# Altium integrated library Ref_altium lib_R0.IntLib: 381 symbols (part 4 of 4)
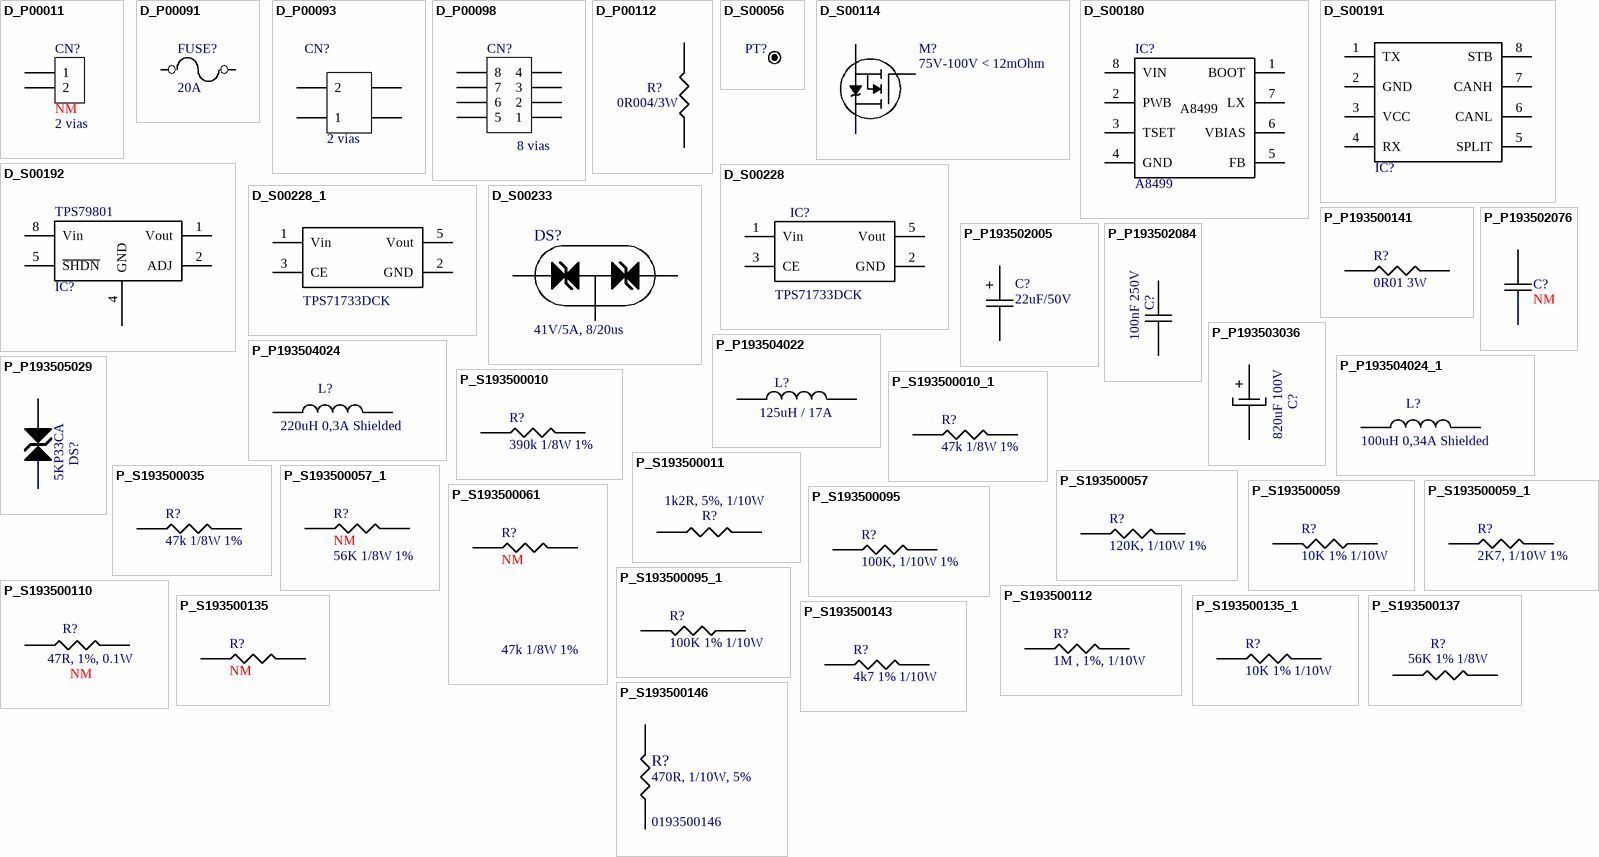
[diagram p14: symbols D_P00011 to P_S193500146]

## P_S193500011
designator R?, comment value 1k2R, 5%, 1/10W  (hidden comment: P_S193500110)
1k2R, 5%, 1/10W; EECON CODE: 0193500011; COMPONENT: RES.,1k2R, 5%, 1/10W; Text Field1: 2322 702 81122L@ REEL 13" 20000PÇS; Text Field2: PHYCOMP; Text Field3: 2322 702 70122L@ REEL 10" 10000PÇS; Text Field5: 2322 702 60122L@ REEL 7" 5000PÇS; Text Field4: PHYCOMP; Text Field6: PHYCOMP
footprint 0603_R_V0
footprint 0603_O_V0
pins: 1, 2

## P_S193500035
designator R?  value 47k 1/8W 1%  (hidden comment: *)
47k 1/8W 1%; DES: R540; Descrição: Resistor filme 0805 47k 1/8W 1%; Fabricante: Yageo / Phycomp; Tipo: SMT; Case: 0805
footprint 0805_R_V0
footprint 0805_O_V0
footprint 0805_R_V3
pins: 1, 2

## P_S193500057
designator R?  value 120K, 1/10W 1%  (hidden comment: P_S193500057)
120K, 1/10W 1%; DES: R211; Fabricante: Yageo / Phycomp; Tipo: SMT; Descrição: Resistor Filme 0603 size 120K 1%; Case: 0603
footprint 0603_R_V0
footprint 0603_O_V0
pins: 1, 2

## P_S193500057_1
designator R?, comment value 56K 1/8W 1%  Obs: NM  (hidden comment: P_S193500010)
56K 1/8W 1%; DES: R204; Fabricante: Yageo / Phycomp; Tipo: SMT; Descrição: Resistor filme 0805 47k 1/8W 1%; Case: 0805
footprint 0603_R_V0
footprint 0603_O_V0
footprint 0805_R_V0
footprint 0805_R_V3
pins: 1, 2

## P_S193500059
designator R?  value 10K 1% 1/10W  (hidden comment: *)
10K 1% 1/10W; DES: R522; Descrição: FILM RESISTOR, 0603 SIZE, 10K 1% 1/10W; Fabricante: Yageo / Phycomp; Tipo: SMT; Case: 0603
footprint 0603_R_V0
footprint 0603_O_V0
pins: 1, 2

## P_S193500059_1
designator R?, comment value 2K7, 1/10W 1%  (hidden comment: P_S193500059)
2K7, 1/10W 1%; DES: R521; Descrição: Resistor Filme 0603 size 2K7 1%; Fabricante: Yageo / Phycomp; Tipo: SMT; Case: 0603
footprint 0603_R_V0
footprint 0603_O_V0
pins: 1, 2

## P_S193500061
designator R?  value 47k 1/8W 1%  Obs: NM  (hidden comment: *)
47k 1/8W 1%; DES: R503; Descrição: Resistor filme 0805 47k 1/8W 1%; Fabricante: Yageo / Phycomp; Tipo: SMT; Case: 0805
footprint 0603_R_V0
footprint 0603_O_V0
footprint 0805_R_V0
footprint 0805_R_V3
pins: 1, 2

## P_S193500095
designator R?  value 100K, 1/10W 1%  (hidden comment: *)
100K, 1/10W 1%; DES: R519; Descrição: Resistor Filme 0603 size 100K 1%; Fabricante: Yageo / Phycomp; Tipo: SMT; Case: 0603
footprint 0603_R_V0
footprint 0603_O_V0
pins: 1, 2

## P_S193500095_1
designator R?  value 100K 1% 1/10W
100K 1% 1/10W; DES: R524; Descrição: FILM RESISTOR, 0603 SIZE, 100K 1% 1/10W; Fabricante: Yageo / Phycomp; Tipo: SMT; Case: 0603
footprint 0603_R_V0
footprint 0603_O_V0
pins: 1, 2

## P_S193500110
designator R?, comment value 47R, 1%, 0.1W  Obs: NM  (hidden comment: P_S193500065)
47R, 1%, 0.1W; EECON CODE: 193500110; Text Field1: FILM RES., 0603 SIZE, 47R, 1%,0.1W; Text Field2: 2322 702 60479 @PKG T&R 7" 5000PÇS; Text Field3: PHYCOMP; Text Field4: 2322 702 70479 @PKG T&R 13" 10000PÇS; Text Field5: PHYCOMP
footprint 0603_R_V0
footprint 0603_O_V0
pins: 1, 2

## P_S193500112
designator R?  value 1M , 1%, 1/10W  (hidden comment: *)
1M , 1%, 1/10W; EECON CODE: 0193500112; COMPONENT: RES, 0603 SIZE, 1M, 1%, 1/10W; Text Field5: 2322 704 81005L@ REEL 20000PÇS; Text Field2: PHYCOMP; Text Field1: 2322 704 61005L@ REEL 5000PÇS; Text Field3: 2322 704 71005L@ REEL 10000PÇS; Text Field6: PHYCOMP; Text Field4: PHYCOMP
footprint 0603_R_V0
footprint 0603_O_V0
pins: 1, 2

## P_S193500135
designator R?  value NM  (hidden comment: *)
NM; DES: R302; Descrição: Resistor 1206
footprint 0603_R_V0
footprint 0603_O_V0
footprint 2010_R_V0
footprint 1206_R_V0
pins: 1, 2

## P_S193500135_1
designator R?, comment value 10K 1% 1/10W  (hidden comment: P_S193500135)
10K 1% 1/10W; DES: R553; Fabricante: Yageo / Phycomp; Tipo: SMT; Descrição: FILM RESISTOR, 0603 SIZE, 10K 1% 1/10W; Case: 0603
footprint 0603_R_V0
footprint 0603_O_V0
pins: 1, 2

## P_S193500137
designator R?  value 56K 1% 1/8W  (hidden comment: *)
56K 1% 1/8W; DES: R539; Descrição: FILM RESISTOR, 0805 SIZE, 56K 1% 1/8W; Fabricante: Yageo / Phycomp; Tipo: SMT; Case: 0805
footprint 0805_R_V0
footprint 0805_O_V0
footprint 0805_R_V3
pins: 1, 2

## P_S193500143
designator R?  value 4k7 1% 1/10W  (hidden comment: *)
4k7 1% 1/10W; DES: R547; Descrição: FILM RESISTOR, 0603 SIZE, 4k7 1% 1/10W; Fabricante: Yageo / Phycomp; Tipo: SMT; Case: 0603
footprint 0603_O_V0
footprint 0603_R_V0
pins: 1, 2

## P_S193500146
designator R?  value 470R, 1/10W, 5%  EECON CODE: 0193500146  (hidden comment: P_S193500146)
470R, 1/10W, 5%; COMPONENT: RES., 0603 SIZE, 2K2, 1/10W, 5%; Text Field2: PHYCOMP; Text Field1: 2322 702 60222L @ REEL 5000PÇS; Text Field5: 2322 702 81222L @ REEL 20000PÇS; Text Field3: 2322 702 70222L @ REEL 10000PÇS; Text Field4: PHYCOMP; Text Field6: PHYCOMP
footprint 0603_R_V0
footprint 0603_O_V0
pins: 1, 2

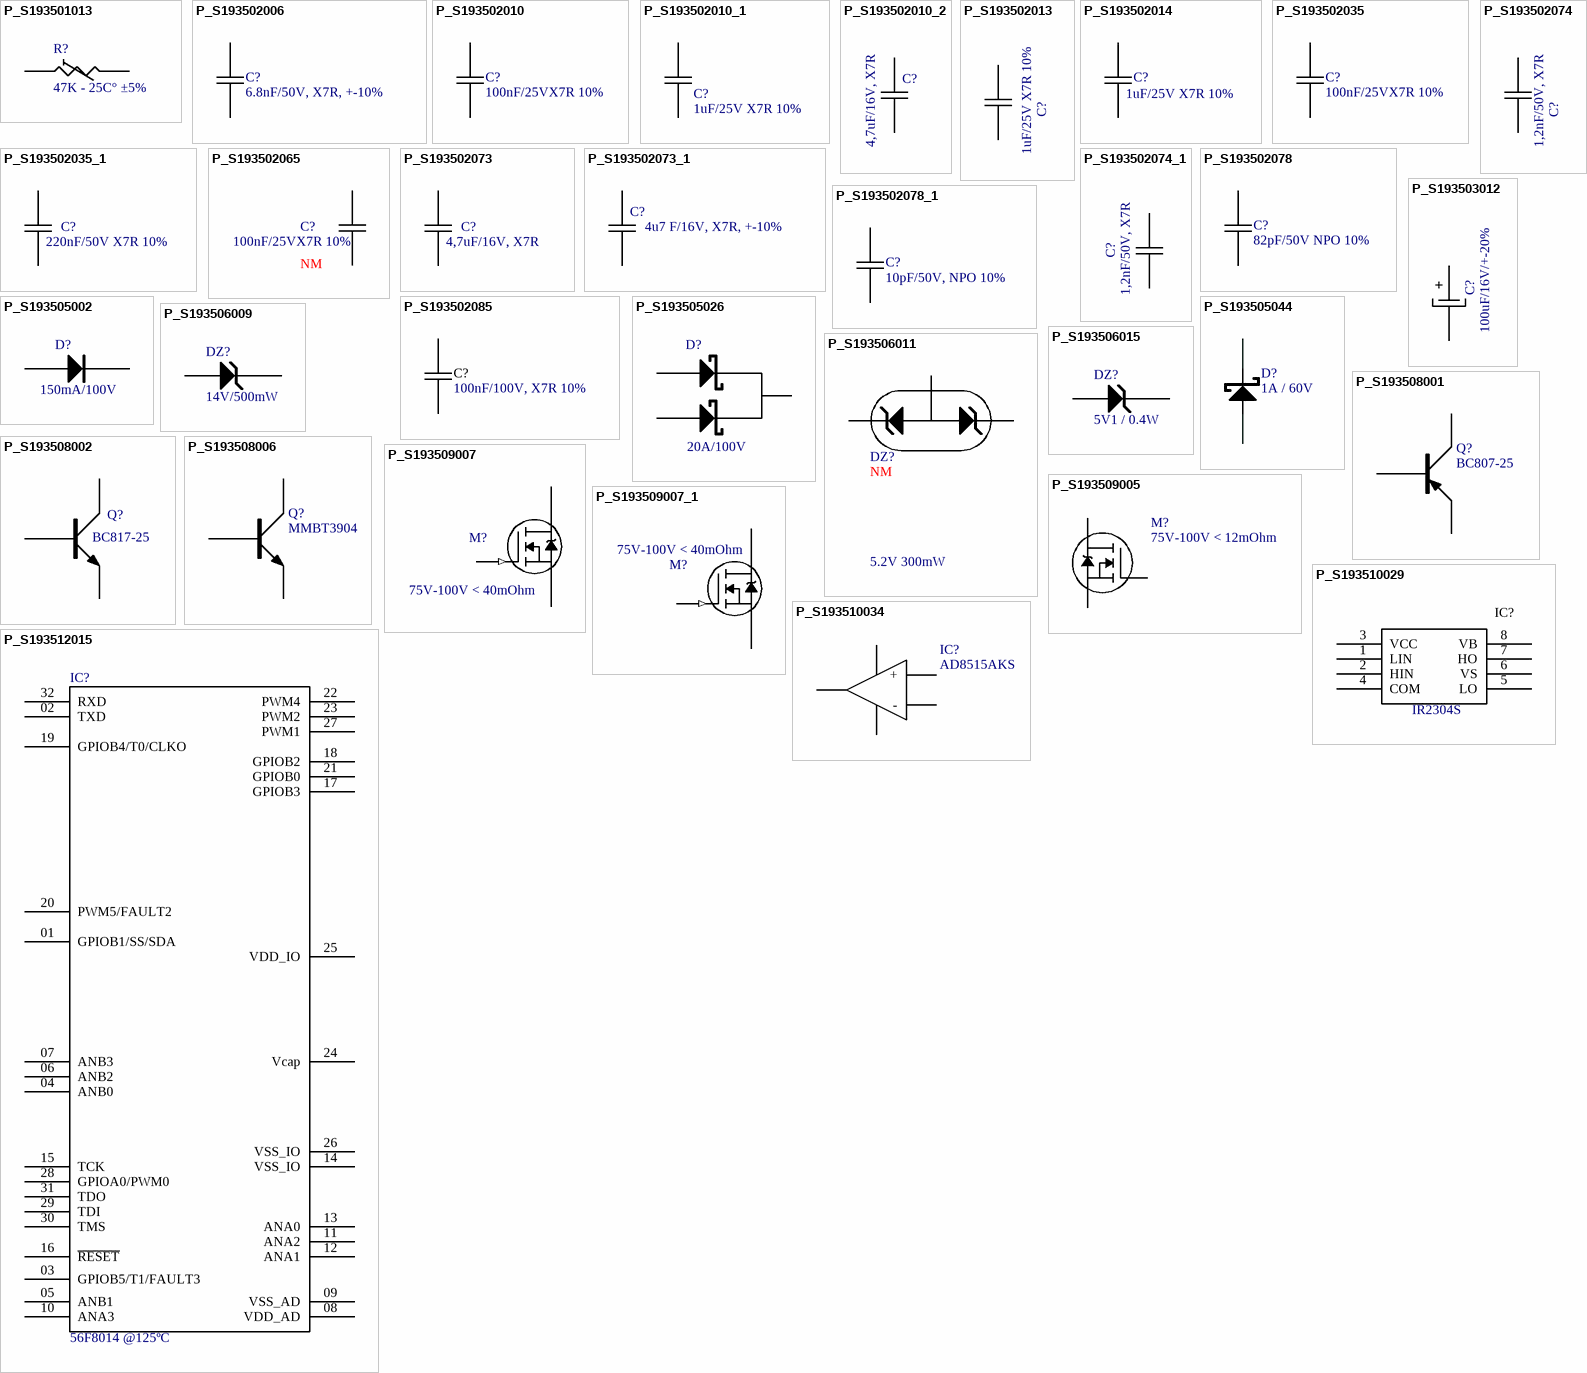
[diagram p11: symbols P_S193501013 to P_S193512015]

## P_S193501013
designator R?  value 47K - 25C° ±5%  (hidden comment: *)
47K - 25C° ±5%; DES: R602; Descrição: NTC Thermistors 47K - 25C° ±5%; Tipo: SMT
footprint 0603_R_V0
footprint 0603_O_V0
pins: 1, 2

## P_S193502006
designator C?  value 6.8nF/50V, X7R, +-10%  (hidden comment: *)
6.8nF/50V, X7R, +-10%; Text Field1: CERAMIC CAP., 0603 SIZE, 6.8nF/50V, X7R, +-10%; Text Field2: 2238 586 55634 @ Paper 8mm Tape Reel 180mm (7") 4000PÇS; Text Field3: PHYCOMP; Text Field4: 2238 586 15634 @ Paper 8mm Tape Reel 330mm (13") 15000PÇS; EECON CODE: 193502006; Text Field5: PHYCOMP
footprint 0603_R_V0
pins: 1, 2

## P_S193502010
designator C?  value 100nF/25VX7R 10%  (hidden comment: *)
100nF/25VX7R 10%; DES: C508; Descrição: Capac ceramic 0603 size 100nF/25VX7R 10%; Fabricante: Yageo / Phycomp; Tipo: SMT; Case: 0603
footprint 0603_R_V0
footprint 0603_O_V0
pins: 1, 2

## P_S193502010_1
designator C?, comment value 1uF/25V X7R 10%  (hidden comment: P_S193502010)
1uF/25V X7R 10%; Part number: 2222 910 15663; DES: C211; Descrição: Capacitor MLCC 1uF 10% 0805 25V X7R; Fabricante: Yageo / Phycomp; Tipo: SMT; Case: 0805
footprint 0603_R_V0
footprint 0603_O_V0
footprint 0805_R_V0
footprint 0805_R_V3
pins: 1, 2

## P_S193502010_2
designator C?, comment value 4,7uF/16V, X7R  (hidden comment: P_S193502010)
4,7uF/16V, X7R; DES: C210; Descrição: CERAMIC CAPAC, 1206 SIZE, 4,7uF/16V, X7R; Fabricante: Yageo / Phycomp; Tipo: SMT; Case: 1206
footprint 1206_R_V0
footprint 0603_O_V0
pins: 1, 2

## P_S193502013
designator C?  value 1uF/25V X7R 10%  (hidden comment: P_S193502013)
1uF/25V X7R 10%; Part number: 2222 910 15663; DES: C203; Descrição: Capacitor MLCC 1uF 10% 0805 25V X7R; Fabricante: Yageo / Phycomp; Tipo: SMT; Case: 0805
footprint 0805_R_V0
footprint 0805_O_V0
footprint 1206_R_V0
footprint 0805_R_V3
pins: 1, 2

## P_S193502014
designator C?  value 1uF/25V X7R 10%  (hidden comment: P_S193502014)
1uF/25V X7R 10%; Part number: 2222 910 15663; DES: C501; Descrição: Capacitor MLCC 1uF 10% 0805 25V X7R; Fabricante: Yageo / Phycomp; Tipo: SMT; Case: 0805
footprint 1206_R_V0
footprint 0603_O_V0
footprint 0805_R_V0
footprint 0805_R_V3
pins: 1, 2

## P_S193502035
designator C?  value 100nF/25VX7R 10%  (hidden comment: P_S193502035)
100nF/25VX7R 10%; DES: C517; Descrição: Capac ceramic 0603 size 100nF/25VX7R 10%; Fabricante: Yageo / Phycomp; Tipo: SMT; Case: 0603
footprint 0805_R_V0
footprint 0805_O_V0
footprint 0603_R_V0
pins: 1, 2

## P_S193502035_1
designator C?, comment value 220nF/50V X7R 10%  (hidden comment: P_S193502010)
220nF/50V X7R 10%; Text Field1: CERAMIC CAP., 0805 SIZE, 100nF/50V, X7R, +-10%; Text Field2: 2238 580 15649 @ Paper Tape& 180mm(7") Reel 4000PÇS % 2238 580 55649 @ Paper Tape& 330mm(13") Reel 15000PÇS; Text Field3: PHYCOMP % PHYCOMP; Text Field4: MCH215CN104KP @ Pulastic Tape 180mm (7in.) 2000PÇS % B37941-K5104-K60 @ Cardboard Tape 180mm Reel 4000PÇS; Text Field5: ROHM % EPCOS; Text Field6: B37941-K5104-K70 @ Cardboard Tape 330mm Reel 16000PÇS; Text Field7: EPCOS; DES: C201; Descrição: Capacitor cer mult 0805 100nF/50V X7R10%; Fabricante: Yageo / Phycomp; Tipo: SMT; Case: 0805
footprint 0805_R_V0
footprint 0805_O_V0
footprint 0805_R_V3
pins: 1, 2

## P_S193502065
designator C?  value 100nF/25VX7R 10%  Obs: NM  (hidden comment: *)
100nF/25VX7R 10%; DES: C502; Descrição: Capac ceramic 0603 size 100nF/25VX7R 10%; Fabricante: Yageo / Phycomp; Tipo: SMT; Case: 0603
footprint 0603_O_V0
footprint 0603_R_V0
pins: 1, 2

## P_S193502073
designator C?  value 4,7uF/16V, X7R  (hidden comment: *)
4,7uF/16V, X7R; DES: C505; Descrição: CERAMIC CAPAC, 1206 SIZE, 4,7uF/16V, X7R; Fabricante: Yageo / Phycomp; Tipo: SMT; Case: 1206
footprint 1206_R_V0
footprint 1206_O_V0
footprint 1206_O_V1
pins: 1, 2

## P_S193502073_1
designator C?, comment value 4u7 F/16V, X7R, +-10%  (hidden comment: P_S193502013)
4u7 F/16V, X7R, +-10%; EECON CODE: 193502073; Text Field1: CERAMIC CAP., 1206 SIZE,4u7F/16V, X7R, +-15%; Text Field2: EMK316 BJ 475??@ Tape & Reel 4000PÇS; Text Field3: Taiyo Yuden
footprint 1206_R_V0
footprint 1206_O_V0
pins: 1, 2

## P_S193502074
designator C?  value 1,2nF/50V, X7R  (hidden comment: *)
1,2nF/50V, X7R; Text Field1: CERAMIC CAP., 0805 SIZE, 1nF/50V, X7R, +-10%; Text Field2: 2238 861 15102 @ Paper Tape& 180mm(7") Reel 4000PÇS; Text Field3: PHYCOMP; Text Field4: 2238 861 75102 @Paper Tape& 330mm(13") Reel 15000PÇS; DES: C519; Descrição: CERAMIC CAPAC, 0603 SIZE, 1,2nF/50V, X7R; Fabricante: Yageo / Phycomp; Tipo: SMT; Text Field5: PHYCOMP; Case: 0805
footprint 0603_R_V0
footprint 0603_O_V0
pins: 1, 2

## P_S193502074_1
designator C?  value 1,2nF/50V, X7R
1,2nF/50V, X7R; Text Field1: CERAMIC CAP., 0805 SIZE, 1nF/50V, X7R, +-10%; Text Field2: 2238 861 15102 @ Paper Tape& 180mm(7") Reel 4000PÇS; Text Field3: PHYCOMP; Text Field4: 2238 861 75102 @Paper Tape& 330mm(13") Reel 15000PÇS; DES: C510; Descrição: CERAMIC CAPAC, 0603 SIZE, 1,2nF/50V, X7R; Fabricante: Yageo / Phycomp; Tipo: SMT; Text Field5: PHYCOMP; Case: 0805
footprint 0603_R_V0
footprint 0603_O_V0
pins: 1, 2

## P_S193502078
designator C?  value 82pF/50V NPO 10%  (hidden comment: *)
82pF/50V NPO 10%; DES: C507; Descrição: CERAMIC CAPAC, 0603 82pF/50V NPO 10%; Fabricante: Yageo / Phycomp; Tipo: SMT; Case: 0603
footprint 0603_R_V0
footprint 0603_O_V0
pins: 1, 2

## P_S193502078_1
designator C?, comment value 10pF/50V, NPO 10%  (hidden comment: P_S193500065)
10pF/50V, NPO 10%; EECON CODE: new; Text Field1: CERAMIC CAP., 0805 SIZE, 1nF/50V, X7R, +-10%; Text Field2: 2238 861 15102 @ Paper Tape& 180mm(7") Reel 4000PÇS; Text Field3: PHYCOMP; Text Field4: 2238 861 75102 @Paper Tape& 330mm(13") Reel 15000PÇS; Text Field5: PHYCOMP
footprint 0603_R_V0
footprint 0603_O_V0
pins: 1, 2

## P_S193502085
designator C?  value 100nF/100V, X7R 10%  (hidden comment: P_S193502085)
100nF/100V, X7R 10%; DES: C401; Descrição: CERAMIC CAPAC, 1206, 100nF/100V, X7R 10%; Fabricante: Yageo / Phycomp
footprint 1206_R_V0
footprint 1206_O_V0
footprint 1206_O_V1
pins: 1, 2

## P_S193503012
designator C?, comment value 100uF/16V/+-20%  (hidden comment: P_S193502010)
100uF/16V/+-20%; Text Field1: ELET. CAP., 100uF/16V 7000h, 105C, +-20%; Text Field2: UCW1C101MCL1GS @  1000PÇS; Text Field3: NICHICON; EECON CODE: new
footprint CAP-ELETRO-C_R_V0
footprint CAP-ELETRO-D_R_V0
pins: 1, 2
text: +

## P_S193505002
designator D?  value 150mA/100V  (hidden comment: P_S193505002)
150mA/100V; Part number: LL4148; DES: D502; Descrição: Diodo 150mA/100V minimelf SOD - 80; Obs: Não montado com driver da ST; Tipo: SMT
footprint MINIMELF_R_V0
footprint MINIMELF_O_V0
pins: 1, 2

## P_S193505026
designator D?  value 20A/100V  (hidden comment: P_S193505026)
20A/100V; Part number: STPS20H100CT; DES: D301; Descrição: Schottky Diode 20A/100V; Fabricante: ST; Tipo: SMT
footprint D2PAK_R_V0
footprint D2PAK_R_V0
footprint DPAK_O_V0
pins: 1, 2, 3

## P_S193505044
designator D?  value 1A / 60V  (hidden comment: *)
1A / 60V; EECON CODE: 0193505044; COMPONENT: SCHOTTKY DIODE,SMA,1A / 60V; Text Field5: SS16-E3/61T @  Reel 7"1800PÇS  -- 13"7500PÇS; Text Field6: Vishay
footprint SMA_403D_R_V0
footprint SMA_403D_O_V0
footprint MELF_R_V0
pins: 1, 2

## P_S193506009
designator DZ?  value 14V/500mW  (hidden comment: *)
14V/500mW; DES: DZ101; Descrição: Diodo zPWer 14V/500mW; Tipo: SMT
footprint SOD-123_R_V0
footprint SOD-123_O_V0
footprint SOD-123_O_V1
pins: 1, 2

## P_S193506011
designator DZ?  value 5.2V 300mW  Obs: NM  (hidden comment: *)
5.2V 300mW; Text Field5: ON SEMICONDUCTORS; DES: DZ502; Descrição: ZPWer duplo anodo comum SOT23 5,6V300mW; Tipo: SMT; Case: SOT23
footprint SOT-23_R_V0
footprint SOT-23_O_V0
pins: 1, 2, 3

## P_S193506015
designator DZ?, comment value 5V1 / 0.4W  (hidden comment: SMT)
5V1 / 0.4W; Descrição: ZPWER 5V1  2% 0.4W (Z8)  SOD323; PN: 9340 548 52115 PDZ5.1B; EECON CODE: 193506015; Supplier: PHILIPS; Tipo: SMT
footprint SOD-123_R_V0
footprint SOD-123_O_V0
footprint SOD323-R
footprint SOD323-R_V0
pins: 1, 2

## P_S193508001
designator Q?  value BC807-25  (hidden comment: P_S193508001)
BC807-25; DES: Q504; Descrição: PNP Transistor SMD SOT23; Tipo: SMT; Case: SOT23; Part number: BC807-25
footprint SOT-23_R_V0
footprint SOT-23_O_V0
pins: 1, 2, 3

## P_S193508002
designator Q?  value BC817-25  (hidden comment: P_S193508002)
BC817-25; DES: Q201; Descrição: NPN Transistor SMD SOT23; Tipo: SMT; Case: SOT23; Part number: BC817-25
footprint SOT-23_R_V0
footprint SOT-23_O_V0
pins: 1, 2, 3

## P_S193508006
designator Q?  value MMBT3904  (hidden comment: P_S193508006)
MMBT3904; DES: Q501; Descrição: Transistor rápido MMBT3904; Tipo: SMT; Case: SOT23; Part number: MMBT3904
footprint SOT-23_R_V0
footprint SOT-23_O_V0
pins: 1, 2, 3

## P_S193509005
designator M?  value 75V-100V < 12mOhm  (hidden comment: *)
75V-100V < 12mOhm; Part number: IRF2807ZPBF; DES: M301; Descrição: MOSFET 75V-100V < 12mOhm D2PAK; Fabricante: IR; Tipo: SMT; Case: D2PAK
footprint D2PAK_O_V0
footprint D2PAK_O_V0
footprint D2PAK_R_V0
pins: 1 GATE, 2 DRAIN, 3 SOURCE

## P_S193509007
designator M?  value 75V-100V < 40mOhm  (hidden comment: *)
75V-100V < 40mOhm; Part number: IRFR2607; DES: M401; Descrição: MOSFET 75V-100V < 40mOhm DPAK; Fabricante: IR; Tipo: SMT; Case: DPAK
footprint DPAK_R_V0
footprint DPAK_O_V0
footprint DPAK_O_V2
footprint DPAK_R_V2
pins: 1 (in), 2, 3

## P_S193509007_1
designator M?  value 75V-100V < 40mOhm  (hidden comment: *)
75V-100V < 40mOhm; Part number: IRFR2607; DES: M406; Descrição: MOSFET 75V-100V < 40mOhm DPAK; Fabricante: IR; Tipo: SMT; Case: DPAK
footprint DPAK_R_V0
footprint DPAK_O_V0
footprint DPAK_O_V2
footprint DPAK_R_V2
footprint DPAK_R_V3
pins: 1 (in), 2, 3

## P_S193510029
designator IC?  value IR2304S  (hidden comment: *)
IR2304S; Part number: IR2304STRPBF; DES: IC502; Descrição: Driver High-side Low-side; Fabricante: IR; Obs: Nova versão do driver da ST; Tipo: SMT; EECON CODE: 193510029; Case: SO-8
footprint SO-8_R_V0
footprint SO-8_O_V0
pins: 1 LIN, 2 HIN, 3 VCC, 4 COM, 5 LO, 6 VS, 7 HO, 8 VB

## P_S193510034
designator IC?  value AD8515AKS  (hidden comment: *)
AD8515AKS; DES: IC505; Descrição: Amplificador Operacional Rail-to-Rail; Fabricante: AD; Tipo: SMT; Case: SC-70; Part number: AD8515AKS
footprint SC70-5_O_V0
footprint SC70-5_R_V0
footprint SOT-23-5_R_V0
footprint SOT-23-5_O_V0
footprint SC70-5_R_V1
pins: 1, 2, 3 +, 4 -, 5

## P_S193512015
designator IC?  value 56F8014 @125ºC  (hidden comment: *)
56F8014 @125ºC; Part number: MC56F8014MFAE; DES: IC501; Descrição: DSP Flash 56F8014 125ºC; Fabricante: Freescale; Tipo: SMT; Case: LQFP-32
footprint S-PDFP-G32_R_V0 - LF
footprint S-PDFP-G32_R_V0
footprint S-PDFP-G32_R_V1 - LF
pins: 01 GPIOB1/SS/SDA, 02 TXD, 03 GPIOB5/T1/FAULT3, 04 ANB0, 05 ANB1, 06 ANB2, 07 ANB3, 08 VDD_AD, 09 VSS_AD, 10 ANA3, 11 ANA2, 12 ANA1, 13 ANA0, 14 VSS_IO, 15 TCK, 16 ~{RESET}, 17 GPIOB3, 18 GPIOB2, 19 GPIOB4/T0/CLKO, 20 PWM5/FAULT2, 21 GPIOB0, 22 PWM4, 23 PWM2, 24 Vcap, 25 VDD_IO, 26 VSS_IO, 27 PWM1, 28 GPIOA0/PWM0, 29 TDI, 30 TMS, 31 TDO, 32 RXD